# EAGLE library part IC_PCA9629A (library openstepper)
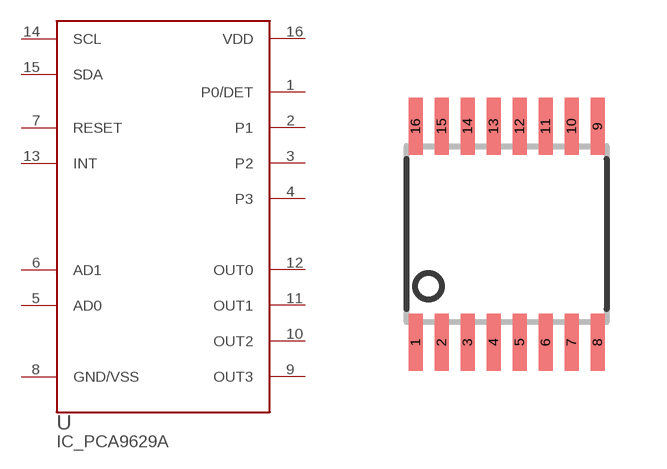
[diagram p0: symbol with the pads of TSSOP-16; footprint TSSOP-16]

Designator prefix -

## IC_PCA9629A  [TSSOP-16]
1  P0/DET
2  P1
3  P2
4  P3
5  AD0
6  AD1
7  RESET
8  GND/VSS
9  OUT3
10  OUT2
11  OUT1
12  OUT0
13  INT
14  SCL
15  SDA
16  VDD

## Footprint TSSOP-16 (pad centres in mm)
smd 0.35 x 1.43: 1 -2.275,-2.7; 2 -1.625,-2.7; 3 -0.975,-2.7; 4 -0.325,-2.7; 5 0.325,-2.7; 6 0.975,-2.7; 7 1.625,-2.7; 8 2.275,-2.7; 9 2.275,2.7; 10 1.625,2.7; 11 0.975,2.7; 12 0.325,2.7; 13 -0.325,2.7; 14 -0.975,2.7; 15 -1.625,2.7; 16 -2.275,2.7